# Altium footprint library NFC_Business_Card.PcbLib: 9 footprints
Each footprint in its own frame and in the unit in brackets; x right, y up, seen from the top. Pads: shape width x height; smd on the part's side, far side on the other; paste and mask are expansions set on the pad; w line width, h text height; cw(c..) or ccw(c..) is an arc to the next point about the centre after c.
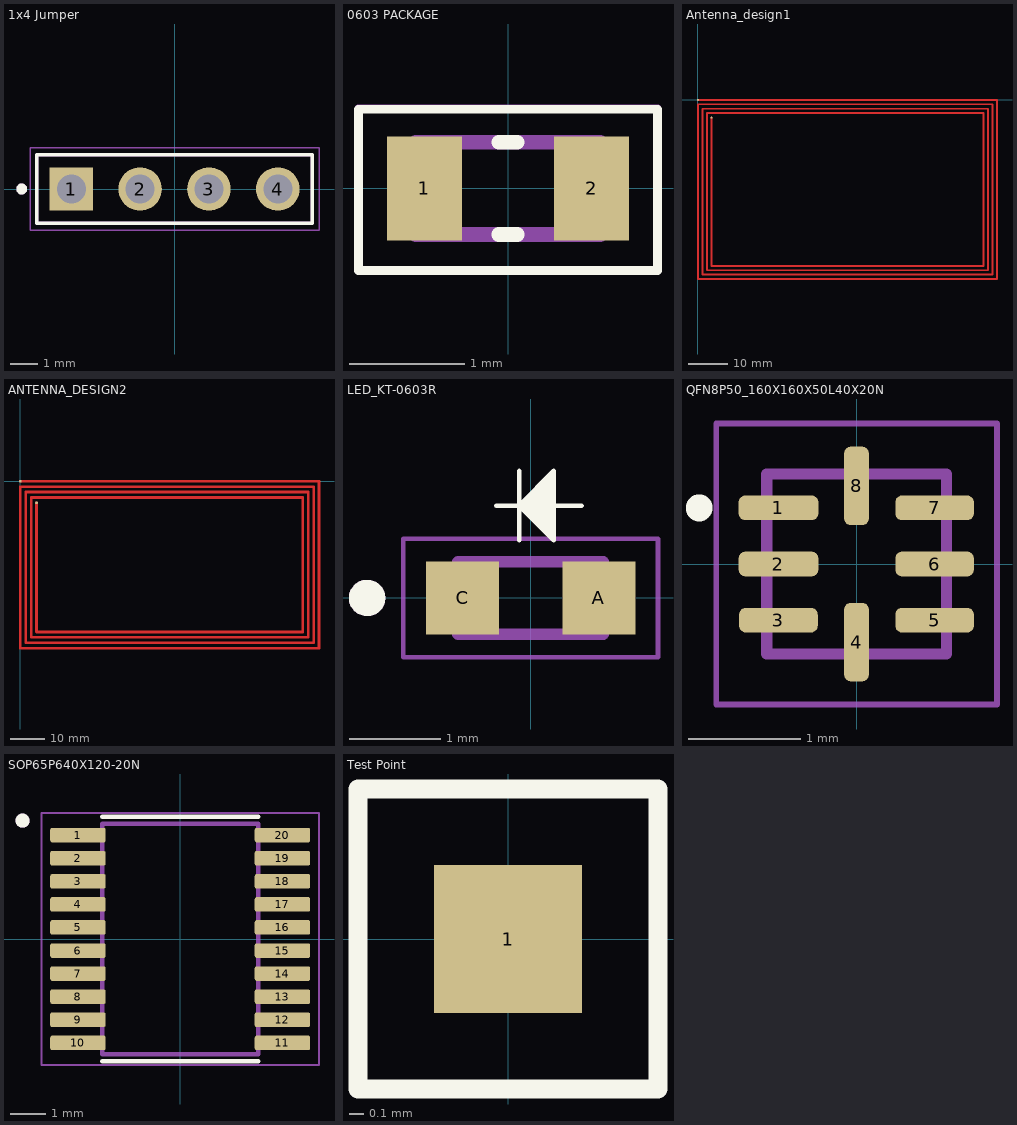
[diagram p0: the footprints below, top view; thin cyan lines are the x and y axes]

## 1x4 Jumper [mm]
pads (4):
  rect 1.605x1.605 / inner round 1.605 / far side rect 1.605x1.605 hole 1.07: 1(-3.81,0)
  round 1.605 hole 1.07: 2(-1.27,0) 3(1.27,0) 4(3.81,0)
Top Overlay:
  circle w0.2: c-5.64,0 r0.1
  lines w0.127: -5.08,-1.27 5.08,-1.27 5.08,1.27 -5.08,1.27 -5.08,-1.27
Mechanical 13:
  circle w0.2: c-5.64,0 r0.1
  lines w0.127: -5.08,-1.27 5.08,-1.27 5.08,1.27 -5.08,1.27 -5.08,-1.27
Mechanical 15:
  lines w0.05: -5.33,-1.52 5.33,-1.52 5.33,1.52 -5.33,1.52 -5.33,-1.52

## 0603 PACKAGE [mm]
pads (2):
  rect 0.65x0.9 smd: 1(-0.725,0) 2(0.725,0)
Top Overlay:
  lines w0.076: -1.295,-0.711 -1.295,0.686 1.295,0.686 1.295,-0.711 -1.295,-0.711
  lines w0.127: -0.08,-0.4 0.08,-0.4 ; -0.08,0.4 0.08,0.4
Mechanical 13:
  lines w0.127: -0.8,-0.4 -0.8,0.4 0.8,0.4 0.8,-0.4 -0.8,-0.4
Mechanical 15:
  lines w0.05: -1.3,-0.7 -1.3,0.7 1.3,0.7 1.3,-0.7 -1.3,-0.7
3D body "Download_STP_8850122060xx_rev1.stp": height 0.4, standoff -0.4, extent -0.8,-0.4 0.8,0.4

## Antenna_design1 [mm]
pads (2):
  round 0.5 smd mask+0: 1(0,0) 2(3.42,-4.56)
Top Layer:
  lines w0.5: 0,0 76.2,0 76.2,-45.72 0,-45.72 0,-1.14 75.06,-1.14 75.06,-44.58 1.14,-44.58 1.14,-2.28 73.92,-2.28 73.92,-43.44 2.28,-43.44 2.28,-3.42 72.78,-3.42 72.78,-42.3 3.42,-42.3 3.42,-4.56

## ANTENNA_DESIGN2 [mm]
pads (2):
  round 0.78 smd mask+0: 1(0,0) 2(4.68,-6.24)
Top Layer:
  lines w0.78: 0,0 86.36,0 86.36,-48.26 0,-48.26 0,-1.56 84.8,-1.56 84.8,-46.7 1.56,-46.7 1.56,-3.12 83.24,-3.12 83.24,-45.14 3.12,-45.14 3.12,-4.68 81.68,-4.68 81.68,-43.58 4.68,-43.58 4.68,-6.24

## LED_KT-0603R [mm]
height 0.65
pads (2):
  rect 0.8x0.8 smd: A(0.75,0) C(-0.75,0)
Top Overlay:
  circle w0.2: c-1.8,0 r0.1
  region: -0.127,1.016 0.254,0.635 0.254,1.397 0.064,1.206 0.254,1.397 0.064,1.206
  lines w0.051: -0.381,1.016 -0.127,1.016 ; -0.127,0.635 -0.127,1.397 ; 0.559,1.016 -0.127,1.016 ; -0.127,1.016 0.254,0.635 0.254,0.762 0.254,1.143 0.254,1.397 -0.127,1.016
Mechanical 13:
  circle w0.2: c-1.8,0 r0.1
  lines w0.127: -0.8,-0.4 0.8,-0.4 0.8,0.4 -0.8,0.4 -0.8,-0.4
Mechanical 15:
  lines w0.05: -1.4,-0.65 1.4,-0.65 1.4,0.65 -1.4,0.65 -1.4,-0.65
3D body "step_temp.STEP": height 0.65, standoff 0, extent -0.8,-0.4 0.8,0.4

## PCBComponent_1 [mm]

## QFN8P50_160X160X50L40X20N [mm]
pads (8):
  rrect54% 0.71x0.22 smd: 1(-0.695,0.5) 2(-0.695,0)
  rrect54% 0.7x0.22 smd: 3(-0.695,-0.5) 5(0.695,-0.5) 6(0.695,0) 7(0.695,0.5)
  rrect54% 0.22x0.7 smd: 4(0,-0.695) 8(0,0.695)
Top Overlay:
  circle w0.2: c-1.4,0.5 r0.02
Mechanical 13:
  lines w0.1: -0.8,-0.8 0.8,-0.8 0.8,0.8 -0.8,0.8 -0.8,-0.8
Mechanical 15:
  lines w0.05: -1.25,-1.25 1.25,-1.25 1.25,1.25 -1.25,1.25 -1.25,-1.25
3D body "step_temp.STEP": height 0.5, standoff 0, extent -0.8,-0.8 0.8,0.8

## SOP65P640X120-20N [mm]
height 1.2
pads (20):
  rrect25% 1.56x0.41 smd: 1(-2.88,2.925) 2(-2.88,2.275) 3(-2.88,1.625) 4(-2.88,0.975) 5(-2.88,0.325) 6(-2.88,-0.325) 7(-2.88,-0.975) 8(-2.88,-1.625) 9(-2.88,-2.275) 10(-2.88,-2.925) 11(2.88,-2.925) 12(2.88,-2.275) 13(2.88,-1.625) 14(2.88,-0.975) 15(2.88,-0.325) 16(2.88,0.325) 17(2.88,0.975) 18(2.88,1.625) 19(2.88,2.275) 20(2.88,2.925)
Top Overlay:
  circle w0.2: c-4.44,3.335 r0.1
  lines w0.127: -2.2,-3.45 2.2,-3.45 ; -2.2,3.45 2.2,3.45
Mechanical 13:
  circle w0.2: c-4.44,3.335 r0.1
  lines w0.127: -2.2,-3.25 2.2,-3.25 2.2,3.25 -2.2,3.25 -2.2,-3.25
Mechanical 15:
  lines w0.05: -3.91,-3.55 3.91,-3.55 3.91,3.55 -3.91,3.55 -3.91,-3.55
3D body "step_temp.STEP": height 1.2, standoff 0, extent -3.2,-3.25 3.2,3.25

## Test Point [mm]
pads (1):
  rect 1x1 smd: 1(0,0)
Top Overlay:
  lines w0.127: -1.016,-1.016 -1.016,1.016 1.016,1.016 1.016,-1.016 -1.016,-1.016